# EAGLE library part P82B715PN (library NXP_By_element14_Batch_1)
I2C-bus extender
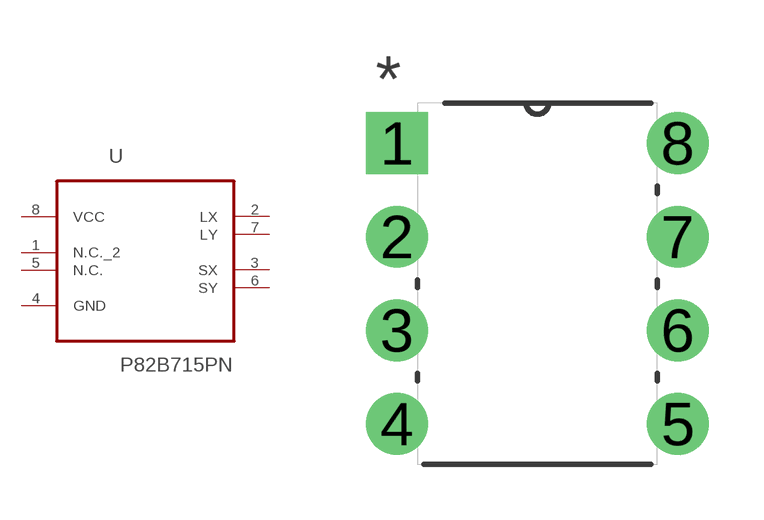
[diagram p395: symbol with the pads of DIP254P762X420-8; footprint DIP254P762X420-8]

Designator prefix U

## P82B715PN (MPN: P82B715PN; OC_FARNELL: 1211741; OC_NEWARK: 24M6586; PACKAGE: DIP-8; SUPPLIER: NXP)  [DIP254P762X420-8]
1  N.C._2  nc
2  LX
3  SX
4  GND  pas
5  N.C.  nc
6  SY
7  LY
8  VCC  pwr

## Footprint DIP254P762X420-8 (pad centres in mm)
drill 1.118 square: 1 -7.62,7.62
drill 1.118: 2 -7.62,5.08; 3 -7.62,2.54; 4 -7.62,0; 5 0,0; 6 0,2.54; 7 0,5.08; 8 0,7.62